# Altium footprint library LED.PcbLib: 43 footprints (part 1 of 3)
Each footprint in its own frame and in the unit in brackets; x right, y up, seen from the top. Pads: shape width x height; smd on the part's side, far side on the other; paste and mask are expansions set on the pad; w line width, h text height; cw(c..) or ccw(c..) is an arc to the next point about the centre after c.
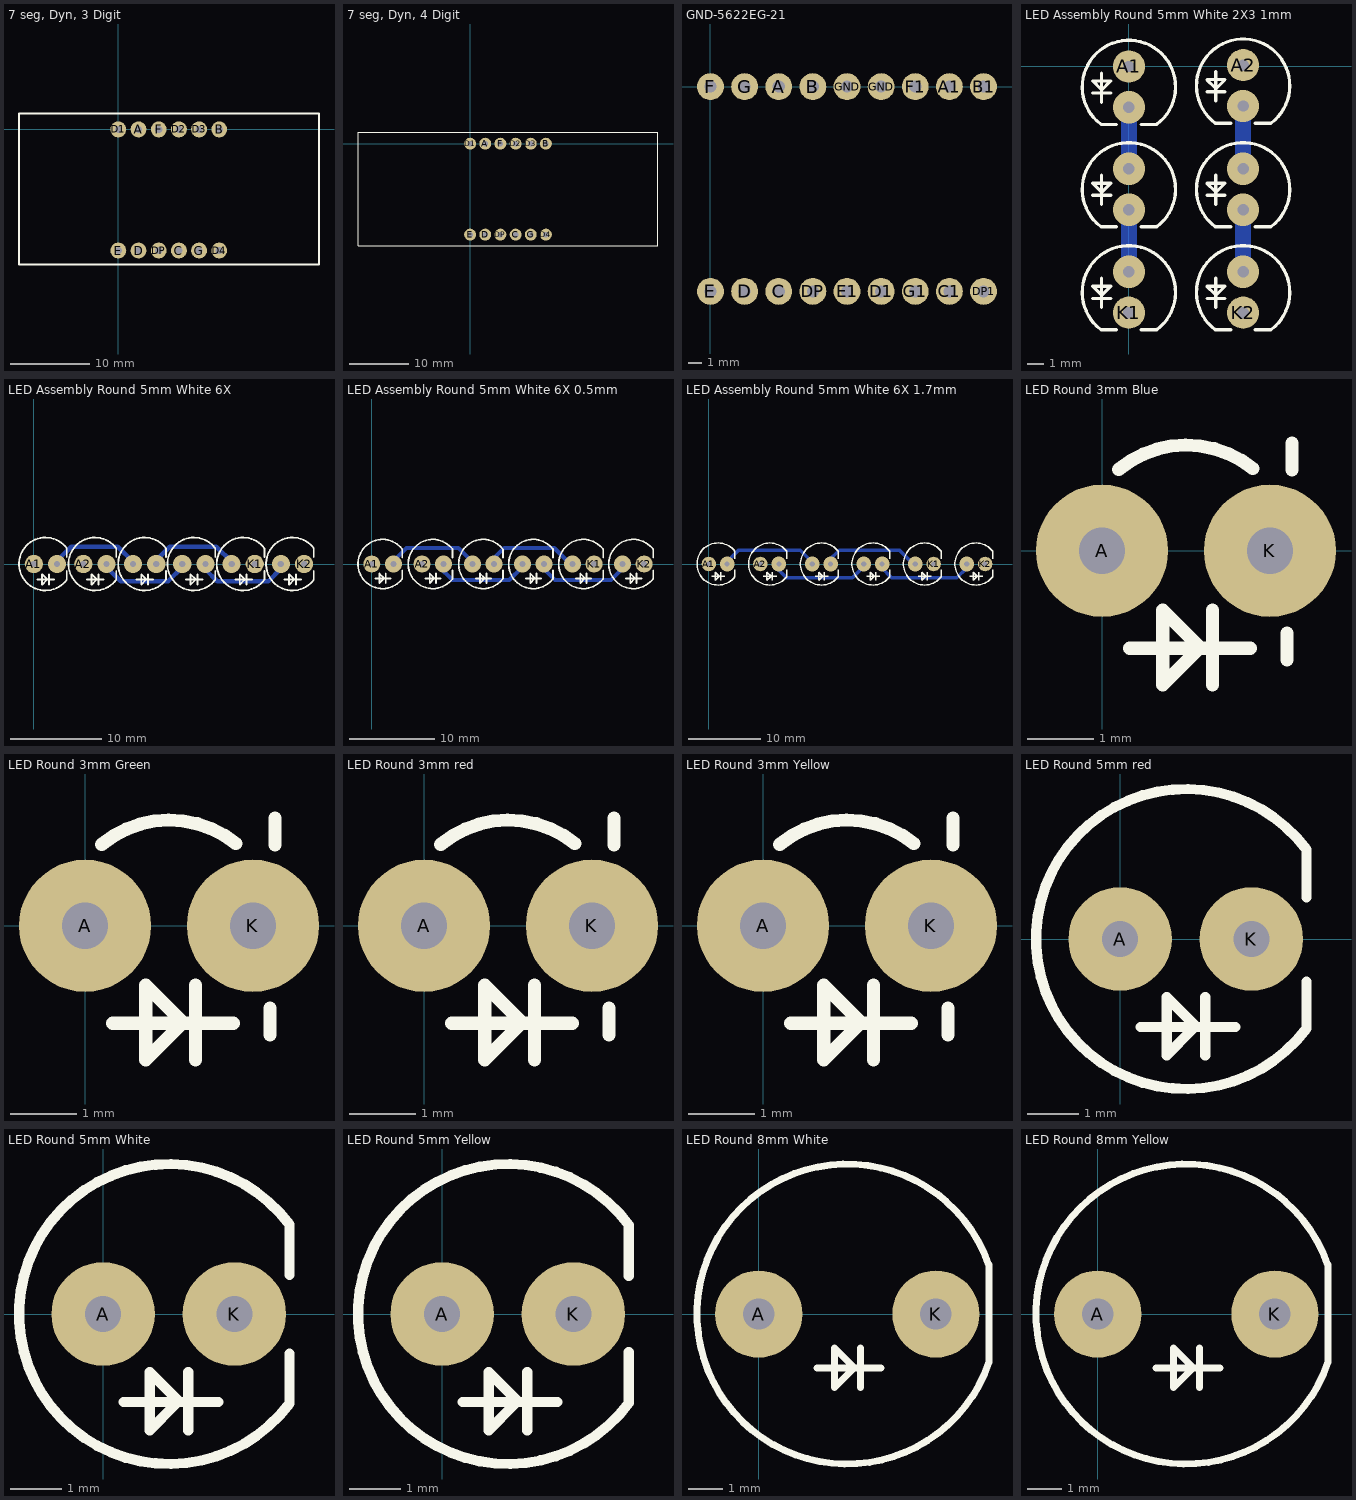
[diagram p0: the footprints below, top view; thin cyan lines are the x and y axes]

## 7 seg, Dyn, 3 Digit [mm] "7 Seg, 3 Digits, Dynamic"
pads (12):
  round 2 hole 0.9: A(2.54,0) B(12.7,0) C(7.62,-15.24) D(2.54,-15.24) D1(0,0) D2(7.62,0) D3(10.16,0) D4(12.7,-15.24) DP(5.08,-15.24) E(0,-15.24) F(5.08,0) G(10.16,-15.24)
Top Overlay:
  lines w0.2: -12.5,-17 -12.5,2 25.25,2 25.25,-17 -12.5,-17
3D body "7seg_3dig_Dyn.Step": height 8, standoff -4.1, extent -12.425,-17.075 25.175,1.925

## 7 seg, Dyn, 4 Digit [mm] "7 Seg, 3 Digits, Dynamic"
pads (12):
  round 2 hole 0.9: A(2.54,0) B(12.7,0) C(7.62,-15.24) D(2.54,-15.24) D1(0,0) D2(7.62,0) D3(10.16,0) D4(12.7,-15.24) DP(5.08,-15.24) E(0,-15.24) F(5.08,0) G(10.16,-15.24)
Top Overlay:
  lines w0.2: -18.8,-17.1 31.5,-17.1 31.5,1.9 -18.8,1.9 -18.8,-17.1
3D body "7seg_4dig_Dyn.STEP": height 8, standoff -4.1, extent -18.775,-17.075 31.525,1.925

## GND-5622EG-21 [mm] "7 Seg, 2 Digits, Static, GND"
pads (18):
  round 2 hole 0.9: A(5.08,0) A1(17.78,0) B(7.62,0) B1(20.32,0) C(5.08,-15.24) C1(17.78,-15.24) D(2.54,-15.24) D1(12.7,-15.24) DP(7.62,-15.24) DP1(20.32,-15.24) E(0,-15.24) E1(10.16,-15.24) F(0,0) F1(15.24,0) G(2.54,0) G1(15.24,-15.24) GND(10.16,0) GND(12.7,0)
3D body "7seg_2dig_static.Step": height 8, standoff -4, extent -2.375,-16.16 22.625,0.86

## LED Assembly Round 5mm White 2X3 1mm [mm] "Assembly 2x3 in one line, distance 1mm"
height 6
pads (4):
  round 2 hole 0.7: A1(0,0) A2(7.1,0.08) K1(0,-15.3) K2(7.1,-15.3)
via 7.1,-12.76 diameter 2 hole 0.7
via 0,-12.76 diameter 2 hole 0.7
via 7.1,-8.9 diameter 2 hole 0.7
via 0,-6.36 diameter 2 hole 0.7
via 7.1,-6.36 diameter 2 hole 0.7
via 0,-8.9 diameter 2 hole 0.7
via 7.1,-2.46 diameter 2 hole 0.7
via 0,-2.54 diameter 2 hole 0.7
Bottom Layer:
  lines w0.5: 0,-12.76 0.24,-12.76 ; 0,-8.9 0.4,-8.9 ; 0,-6.36 0.24,-6.36 ; 0,-2.54 0.34,-2.54 ; 6.5,-8.9 7.1,-8.9 ; 6.56,-12.76 7.1,-12.76 ; 6.74,-2.46 7.1,-2.46 ; 6.76,-6.36 7.1,-6.36
  lines w1: 0,-12.76 0,-8.9 ; 0,-6.36 0,-2.54 ; 7.1,-12.76 7.1,-8.9 ; 7.1,-6.36 7.1,-2.46
Top Overlay:
  lines w0.2: -2.25,-14.41 -1.125,-14.41 ; -2.25,-8.01 -1.125,-8.01 ; -2.25,-1.65 -1.125,-1.65 ; -1.7,-14.985 -1.7,-13.16 ; -1.7,-8.585 -1.7,-6.76 ; -1.7,-2.225 -1.7,-0.4 ; -0.771,-16.364 -1.728,-16.364 cw(c0,-14.035) 1.728,-16.364 0.754,-16.364 ; -0.771,-9.964 -1.728,-9.964 cw(c0,-7.635) 1.728,-9.964 0.754,-9.964 ; -0.771,-3.604 -1.728,-3.604 cw(c0,-1.275) 1.728,-3.604 0.754,-3.604 ; 4.85,-14.41 5.975,-14.41 ; 4.85,-8.01 5.975,-8.01 ; 4.85,-1.57 5.975,-1.57 ; 5.4,-14.985 5.4,-13.16 ; 5.4,-8.585 5.4,-6.76 ; 5.4,-2.145 5.4,-0.32 ; 6.329,-16.364 5.372,-16.364 cw(c7.1,-14.035) 8.828,-16.364 7.854,-16.364 ; 6.329,-9.964 5.372,-9.964 cw(c7.1,-7.635) 8.828,-9.964 7.854,-9.964 ; 6.329,-3.524 5.372,-3.524 cw(c7.1,-1.195) 8.828,-3.524 7.854,-3.524 ; -2.25,-13.66 -1.75,-14.16 -1.687,-14.222 -1.125,-13.66 -2.25,-13.66 ; -2.25,-7.26 -1.75,-7.76 -1.687,-7.823 -1.125,-7.26 -2.25,-7.26 ; -2.25,-0.9 -1.125,-0.9 -1.687,-1.462 -1.75,-1.4 -2.25,-0.9 ; 4.85,-13.66 5.35,-14.16 5.413,-14.222 5.975,-13.66 4.85,-13.66 ; 4.85,-7.26 5.35,-7.76 5.413,-7.822 5.975,-7.26 4.85,-7.26 ; 4.85,-0.82 5.35,-1.32 5.413,-1.382 5.975,-0.82 4.85,-0.82
3D body "LED 5mm Clear.STEP": height 9.31, standoff -5.49, extent -3.01,-3.71 3.01,1.71
3D body "LED 5mm Clear.STEP": height 9.31, standoff -5.49, extent 4.09,-3.63 10.11,1.79
3D body "LED 5mm Clear.STEP": height 9.31, standoff -5.49, extent -3.01,-10.07 3.01,-4.65
3D body "LED 5mm Clear.STEP": height 9.31, standoff -5.49, extent 4.09,-10.07 10.11,-4.65
3D body "LED 5mm Clear.STEP": height 9.31, standoff -5.49, extent -3.01,-16.47 3.01,-11.05
3D body "LED 5mm Clear.STEP": height 9.31, standoff -5.49, extent 4.09,-16.47 10.11,-11.05

## LED Assembly Round 5mm White 6X [mm] "Assembly 6X in one line"
height 6
pads (4):
  round 2 hole 0.7: A1(0,0) A2(5.42,0) K1(24.2,0) K2(29.6,0)
via 2.54,0 diameter 2 hole 0.7
via 7.96,0 diameter 2 hole 0.7
via 13.4,0 diameter 2 hole 0.7
via 16.26,0 diameter 2 hole 0.7
via 10.86,0 diameter 2 hole 0.7
via 18.8,0 diameter 2 hole 0.7
via 21.66,0 diameter 2 hole 0.7
via 27.06,0 diameter 2 hole 0.7
Bottom Layer:
  lines w0.5: 2.54,0 2.54,0.34 4.1,1.9 9.2,1.9 10.86,0.24 10.86,0 ; 7.96,0 7.96,-0.36 9.5,-1.9 14.7,-1.9 16.26,-0.34 16.26,0 ; 13.4,0 13.4,0.4 14.9,1.9 20,1.9 21.66,0.24 21.66,0 ; 18.8,0 18.8,-0.6 20.1,-1.9 25.7,-1.9 27.06,-0.54 27.06,0
Top Overlay:
  lines w0.2: 0.4,-1.7 2.225,-1.7 ; 1.65,-2.25 1.65,-1.125 ; 3.604,-0.771 3.604,-1.728 cw(c1.275,0) 3.604,1.728 3.604,0.754 ; 5.82,-1.7 7.645,-1.7 ; 7.07,-2.25 7.07,-1.125 ; 9.024,-0.771 9.024,-1.728 cw(c6.695,0) 9.024,1.728 9.024,0.754 ; 11.26,-1.7 13.085,-1.7 ; 12.51,-2.25 12.51,-1.125 ; 14.464,-0.771 14.464,-1.728 cw(c12.135,0) 14.464,1.728 14.464,0.754 ; 16.66,-1.7 18.485,-1.7 ; 17.91,-2.25 17.91,-1.125 ; 19.864,-0.771 19.864,-1.728 cw(c17.535,0) 19.864,1.728 19.864,0.754 ; 22.06,-1.7 23.885,-1.7 ; 23.31,-2.25 23.31,-1.125 ; 25.264,-0.771 25.264,-1.728 cw(c22.935,0) 25.264,1.728 25.264,0.754 ; 27.46,-1.7 29.285,-1.7 ; 28.71,-2.25 28.71,-1.125 ; 30.664,-0.771 30.664,-1.728 cw(c28.335,0) 30.664,1.728 30.664,0.754 ; 0.9,-2.25 1.4,-1.75 1.462,-1.687 0.9,-1.125 0.9,-2.25 ; 6.32,-2.25 6.32,-1.125 6.882,-1.687 6.82,-1.75 6.32,-2.25 ; 11.76,-2.25 11.76,-1.125 12.322,-1.687 12.26,-1.75 11.76,-2.25 ; 17.16,-2.25 17.16,-1.125 17.722,-1.687 17.66,-1.75 17.16,-2.25 ; 22.56,-2.25 22.56,-1.125 23.122,-1.687 23.06,-1.75 22.56,-2.25 ; 27.96,-2.25 27.96,-1.125 28.522,-1.687 28.46,-1.75 27.96,-2.25
3D body "LED 5mm Clear.STEP": height 9.31, standoff -5.49, extent 25.35,-3.01 30.77,3.01
3D body "LED 5mm Clear.STEP": height 9.31, standoff -5.49, extent 19.95,-3.01 25.37,3.01
3D body "LED 5mm Clear.STEP": height 9.31, standoff -5.49, extent 14.55,-3.01 19.97,3.01
3D body "LED 5mm Clear.STEP": height 9.31, standoff -5.49, extent 9.15,-3.01 14.57,3.01
3D body "LED 5mm Clear.STEP": height 9.31, standoff -5.49, extent 3.71,-3.01 9.13,3.01
3D body "LED 5mm Clear.STEP": height 9.31, standoff -5.49, extent -1.71,-3.01 3.71,3.01

## LED Assembly Round 5mm White 6X 0.5mm [mm] "Assembly 6X in one line, distance 0.5mm"
height 6
pads (4):
  round 2 hole 0.7: A1(0,0) A2(5.92,0) K1(26.2,0) K2(32.1,0)
via 2.54,0 diameter 2 hole 0.7
via 8.46,0 diameter 2 hole 0.7
via 14.4,0 diameter 2 hole 0.7
via 17.76,0 diameter 2 hole 0.7
via 11.86,0 diameter 2 hole 0.7
via 20.3,0 diameter 2 hole 0.7
via 23.66,0 diameter 2 hole 0.7
via 29.56,0 diameter 2 hole 0.7
Bottom Layer:
  lines w0.5: 2.54,0 2.54,0.34 4.1,1.9 10.2,1.9 11.86,0.24 11.86,0 ; 7.96,-0.36 9.5,-1.9 16.2,-1.9 17.76,-0.34 17.76,0 ; 8.46,-0.36 8.46,0 ; 14.1,0.4 15.6,1.9 21.5,1.9 23.16,0.24 ; 14.4,0 14.4,0.4 ; 20.3,0 20.3,-0.6 21.6,-1.9 28.2,-1.9 29.56,-0.54 29.56,0 ; 23.66,0 23.66,0.24
Top Overlay:
  lines w0.2: 0.4,-1.7 2.225,-1.7 ; 1.65,-2.25 1.65,-1.125 ; 3.604,-0.771 3.604,-1.728 cw(c1.275,0) 3.604,1.728 3.604,0.754 ; 6.32,-1.7 8.145,-1.7 ; 7.57,-2.25 7.57,-1.125 ; 9.524,-0.771 9.524,-1.728 cw(c7.195,0) 9.524,1.728 9.524,0.754 ; 12.26,-1.7 14.085,-1.7 ; 13.51,-2.25 13.51,-1.125 ; 15.464,-0.771 15.464,-1.728 cw(c13.135,0) 15.464,1.728 15.464,0.754 ; 18.16,-1.7 19.985,-1.7 ; 19.41,-2.25 19.41,-1.125 ; 21.364,-0.771 21.364,-1.728 cw(c19.035,0) 21.364,1.728 21.364,0.754 ; 24.06,-1.7 25.885,-1.7 ; 25.31,-2.25 25.31,-1.125 ; 27.264,-0.771 27.264,-1.728 cw(c24.935,0) 27.264,1.728 27.264,0.754 ; 29.96,-1.7 31.785,-1.7 ; 31.21,-2.25 31.21,-1.125 ; 33.164,-0.771 33.164,-1.728 cw(c30.835,0) 33.164,1.728 33.164,0.754 ; 0.9,-2.25 1.4,-1.75 1.462,-1.687 0.9,-1.125 0.9,-2.25 ; 6.82,-2.25 6.82,-1.125 7.382,-1.687 7.32,-1.75 6.82,-2.25 ; 12.76,-2.25 12.76,-1.125 13.322,-1.687 13.26,-1.75 12.76,-2.25 ; 18.66,-2.25 18.66,-1.125 19.222,-1.687 19.16,-1.75 18.66,-2.25 ; 24.56,-2.25 24.56,-1.125 25.122,-1.687 25.06,-1.75 24.56,-2.25 ; 30.46,-2.25 30.46,-1.125 31.022,-1.687 30.96,-1.75 30.46,-2.25
3D body "LED 5mm Clear.STEP": height 9.31, standoff -5.49, extent 27.85,-3.01 33.27,3.01
3D body "LED 5mm Clear.STEP": height 9.31, standoff -5.49, extent 21.95,-3.01 27.37,3.01
3D body "LED 5mm Clear.STEP": height 9.31, standoff -5.49, extent 16.05,-3.01 21.47,3.01
3D body "LED 5mm Clear.STEP": height 9.31, standoff -5.49, extent 10.15,-3.01 15.57,3.01
3D body "LED 5mm Clear.STEP": height 9.31, standoff -5.49, extent 4.21,-3.01 9.63,3.01
3D body "LED 5mm Clear.STEP": height 9.31, standoff -5.49, extent -1.71,-3.01 3.71,3.01

## LED Assembly Round 5mm White 6X 1.7mm [mm] "Assembly 6X in one line, distance 1.7mm"
height 6
pads (4):
  round 2 hole 0.7: A1(0,0) A2(7.12,0) K1(31,0) K2(38.1,0)
via 35.56,0 diameter 2 hole 0.7
via 28.46,0 diameter 2 hole 0.7
via 23.9,0 diameter 2 hole 0.7
via 14.26,0 diameter 2 hole 0.7
via 21.36,0 diameter 2 hole 0.7
via 16.8,0 diameter 2 hole 0.7
via 9.66,0 diameter 2 hole 0.7
via 2.54,0 diameter 2 hole 0.7
Bottom Layer:
  lines w0.5: 2.54,0 2.54,0.34 4.1,1.9 12.6,1.9 14.26,0.24 14.26,0 ; 9.16,-0.36 10.7,-1.9 19.8,-1.9 21.36,-0.34 21.36,0 ; 9.66,-0.36 9.66,0 ; 16.5,0.4 18,1.9 26.3,1.9 27.96,0.24 ; 16.8,0 16.8,0.4 ; 23.9,0 23.9,-0.6 25.2,-1.9 34.2,-1.9 35.56,-0.54 35.56,0 ; 28.46,0 28.46,0.24
Top Overlay:
  lines w0.2: 0.4,-1.7 2.225,-1.7 ; 1.65,-2.25 1.65,-1.125 ; 3.604,-0.771 3.604,-1.728 cw(c1.275,0) 3.604,1.728 3.604,0.754 ; 7.52,-1.7 9.345,-1.7 ; 8.77,-2.25 8.77,-1.125 ; 10.724,-0.771 10.724,-1.728 cw(c8.395,0) 10.724,1.728 10.724,0.754 ; 14.66,-1.7 16.485,-1.7 ; 15.91,-2.25 15.91,-1.125 ; 17.864,-0.771 17.864,-1.728 cw(c15.535,0) 17.864,1.728 17.864,0.754 ; 21.76,-1.7 23.585,-1.7 ; 23.01,-2.25 23.01,-1.125 ; 24.964,-0.771 24.964,-1.728 cw(c22.635,0) 24.964,1.728 24.964,0.754 ; 28.86,-1.7 30.685,-1.7 ; 30.11,-2.25 30.11,-1.125 ; 32.064,-0.771 32.064,-1.728 cw(c29.735,0) 32.064,1.728 32.064,0.754 ; 35.96,-1.7 37.785,-1.7 ; 37.21,-2.25 37.21,-1.125 ; 39.164,-0.771 39.164,-1.728 cw(c36.835,0) 39.164,1.728 39.164,0.754 ; 0.9,-2.25 0.9,-1.125 1.462,-1.687 1.4,-1.75 0.9,-2.25 ; 8.02,-2.25 8.52,-1.75 8.582,-1.687 8.02,-1.125 8.02,-2.25 ; 15.16,-2.25 15.66,-1.75 15.722,-1.687 15.16,-1.125 15.16,-2.25 ; 22.26,-2.25 22.76,-1.75 22.822,-1.687 22.26,-1.125 22.26,-2.25 ; 29.36,-2.25 29.86,-1.75 29.922,-1.687 29.36,-1.125 29.36,-2.25 ; 36.46,-2.25 36.96,-1.75 37.022,-1.687 36.46,-1.125 36.46,-2.25
3D body "LED 5mm Clear.STEP": height 9.31, standoff -5.49, extent -1.71,-3.01 3.71,3.01
3D body "LED 5mm Clear.STEP": height 9.31, standoff -5.49, extent 5.41,-3.01 10.83,3.01
3D body "LED 5mm Clear.STEP": height 9.31, standoff -5.49, extent 12.55,-3.01 17.97,3.01
3D body "LED 5mm Clear.STEP": height 9.31, standoff -5.49, extent 19.65,-3.01 25.07,3.01
3D body "LED 5mm Clear.STEP": height 9.31, standoff -5.49, extent 26.75,-3.01 32.17,3.01
3D body "LED 5mm Clear.STEP": height 9.31, standoff -5.49, extent 33.85,-3.01 39.27,3.01

## LED Round 3mm Blue [mm]
height 6
pads (2):
  round 2 hole 0.7: A(0,0) K(2.54,0)
Top Overlay:
  lines w0.2: 0.251,1.229 cw(c1.275,0) 2.281,1.244 ; 0.419,-1.477 2.244,-1.477 ; 1.669,-2.027 1.669,-0.902 ; 2.8,-1.65 2.8,-1.25 ; 2.875,1.225 2.875,1.625 ; 0.919,-2.027 0.919,-0.902 1.481,-1.464 1.419,-1.527 0.919,-2.027
3D body "LED 3mm Blue.STEP": height 4.98, standoff -2.5, extent -0.394,-1.653 2.82,1.644

## LED Round 3mm Green [mm]
height 6
pads (2):
  round 2 hole 0.7: A(0,0) K(2.54,0)
Top Overlay:
  lines w0.2: 0.251,1.229 cw(c1.275,0) 2.281,1.244 ; 0.419,-1.477 2.244,-1.477 ; 1.669,-2.027 1.669,-0.902 ; 2.8,-1.65 2.8,-1.25 ; 2.875,1.225 2.875,1.625 ; 0.919,-2.027 0.919,-0.902 1.481,-1.464 1.419,-1.527 0.919,-2.027
3D body "LED 3mm Green.STEP": height 5.51, standoff -2.49, extent -0.394,-1.648 2.906,1.64

## LED Round 3mm red [mm]
height 6
pads (2):
  round 2 hole 0.7: A(0,0) K(2.54,0)
Top Overlay:
  lines w0.2: 0.251,1.229 cw(c1.275,0) 2.281,1.244 ; 0.419,-1.477 2.244,-1.477 ; 1.669,-2.027 1.669,-0.902 ; 2.8,-1.65 2.8,-1.25 ; 2.875,1.225 2.875,1.625 ; 0.919,-2.027 0.919,-0.902 1.481,-1.464 1.419,-1.527 0.919,-2.027
3D body "LED 3mm Red.STEP": height 5.51, standoff -2.49, extent -0.394,-1.648 2.906,1.64

## LED Round 3mm Yellow [mm]
height 6
pads (2):
  round 2 hole 0.7: A(0,0) K(2.54,0)
Top Overlay:
  lines w0.2: 0.251,1.229 cw(c1.275,0) 2.281,1.244 ; 0.419,-1.477 2.244,-1.477 ; 1.669,-2.027 1.669,-0.902 ; 2.8,-1.65 2.8,-1.25 ; 2.875,1.225 2.875,1.625 ; 0.919,-2.027 1.419,-1.527 1.481,-1.464 0.919,-0.902 0.919,-2.027
3D body "LED 3mm Yellow.STEP": height 5.51, standoff -2.49, extent -0.394,-1.648 2.906,1.64

## LED Round 5mm red [mm]
height 6
pads (2):
  round 2 hole 0.7: A(0,0) K(2.54,0)
Top Overlay:
  lines w0.2: 0.4,-1.7 2.225,-1.7 ; 1.65,-2.25 1.65,-1.125 ; 3.604,-0.829 3.604,-1.728 cw(c1.275,0) 3.604,1.728 3.604,0.804 ; 0.9,-2.25 0.9,-1.125 1.462,-1.687 1.4,-1.75 0.9,-2.25
3D body "LED 5MM RED.step": height 8.8, standoff -4.8, extent -1.275,-2.55 3.825,2.55

## LED Round 5mm White [mm]
height 6
pads (2):
  round 2 hole 0.7: A(0,0) K(2.54,0)
Top Overlay:
  lines w0.2: 0.4,-1.7 2.225,-1.7 ; 1.65,-2.25 1.65,-1.125 ; 3.604,-0.771 3.604,-1.728 cw(c1.275,0) 3.604,1.728 3.604,0.754 ; 0.9,-2.25 0.9,-1.125 1.462,-1.687 1.4,-1.75 0.9,-2.25
3D body "LED 5mm Clear.STEP": height 9.31, standoff -5.49, extent -1.71,-3.01 3.71,3.01

## LED Round 5mm Yellow [mm]
height 6
pads (2):
  round 2 hole 0.7: A(0,0) K(2.54,0)
Top Overlay:
  lines w0.2: 0.4,-1.7 2.225,-1.7 ; 1.65,-2.25 1.65,-1.125 ; 3.613,-0.738 3.613,-1.716 cw(c1.275,0) 3.613,1.716 3.613,0.738 ; 0.9,-2.25 0.9,-1.125 1.462,-1.687 1.4,-1.75 0.9,-2.25
3D body "LED 5mm Yellow.STEP": height 9.31, standoff -5.49, extent -1.71,-3.01 3.71,3.01

## LED Round 8mm White [mm]
height 6
pads (2):
  round 2.5 hole 0.9: A(0,0) K(5.08,0)
Top Overlay:
  lines w0.2: 1.675,-1.55 3.5,-1.55 ; 2.925,-2.1 2.925,-0.975 ; 6.584,1.44 ccw(c2.532,0.001) 6.6,-1.393 ; 6.6,-1.375 6.6,1.425 ; 2.175,-2.1 2.675,-1.6 2.737,-1.538 2.175,-0.975 2.175,-2.1
3D body "LED 8mm Yellow.STEP": height 13, standoff -29, extent -1.85,-4.497 6.68,4.497

## LED Round 8mm Yellow [mm]
height 6
pads (2):
  round 2.5 hole 0.9: A(0,0) K(5.08,0)
Top Overlay:
  lines w0.2: 1.675,-1.55 3.5,-1.55 ; 2.925,-2.1 2.925,-0.975 ; 6.584,1.44 ccw(c2.532,0.001) 6.6,-1.393 ; 6.6,-1.375 6.6,1.425 ; 2.175,-2.1 2.675,-1.6 2.737,-1.538 2.175,-0.975 2.175,-2.1
3D body "LED 8mm Yellow.STEP": height 13, standoff -29, extent -1.85,-4.497 6.68,4.497